# Altium schematic symbol library GSM.SchLib: 2 symbols
Pins are listed as number, name and electrical type; pins without a type are passive.

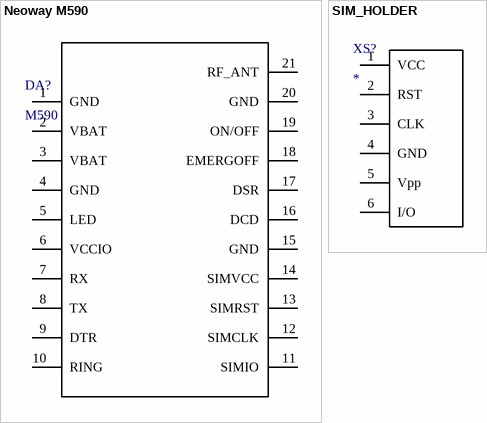
[diagram p0: symbols Neoway M590 to SIM_HOLDER]

## Neoway M590
designator DA?, comment M590
footprint M590
pins: 1 GND, 2 VBAT, 3 VBAT, 4 GND, 5 LED, 6 VCCIO, 7 RX, 8 TX, 9 DTR, 10 RING, 11 SIMIO, 12 SIMCLK, 13 SIMRST, 14 SIMVCC, 15 GND, 16 DCD, 17 DSR, 18 EMERGOFF, 19 ON/OFF, 20 GND, 21 RF_ANT

## SIM_HOLDER
designator XS?
footprint SimHolder
pins: 1 VCC, 2 RST, 3 CLK, 4 GND, 5 Vpp, 6 I/O